# Altium footprint library 未分类器件.PcbLib: 33 footprints (part 1 of 3)
Each footprint in its own frame and in the unit in brackets; x right, y up, seen from the top. Pads: shape width x height; smd on the part's side, far side on the other; paste and mask are expansions set on the pad; w line width, h text height; cw(c..) or ccw(c..) is an arc to the next point about the centre after c.
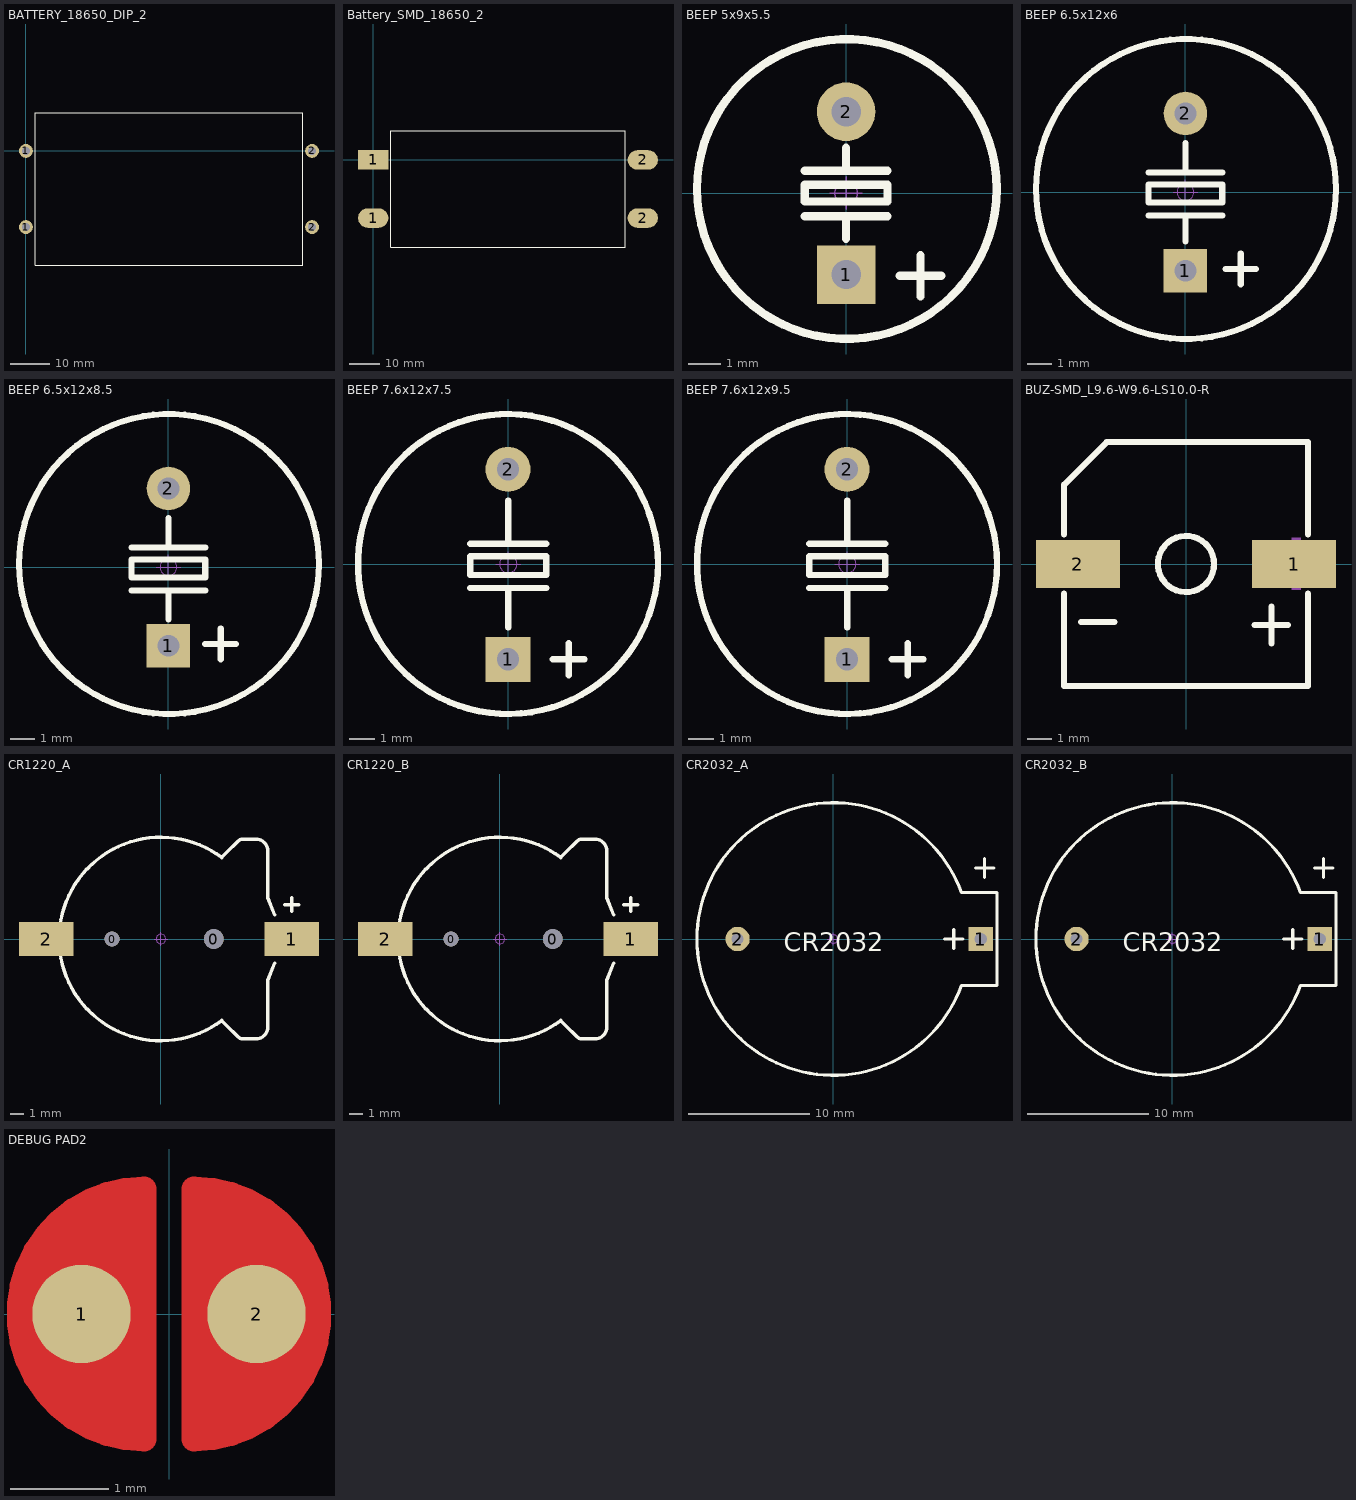
[diagram p0: the footprints below, top view; thin cyan lines are the x and y axes]

## BATTERY_18650_DIP_2 [mm]
height 20
pads (4):
  round 3.5 hole 2: 1(0,-19.3) 1(0,0) 2(72.5,-19.3) 2(72.5,0)
Top Overlay:
  lines w0.2: 2.335,-28.95 2.335,9.65 31.425,9.65 70.165,9.65 70.165,-28.95 2.335,-28.95
3D body "User Library-18650 Full.STEP": height 21.65, standoff -3.83, extent -2.644,-29.677 75.006,10.423

## Battery_SMD_18650_2 [mm]
height 20
pads (4):
  oval 10x6.4 smd: 1(0,-19.1) 2(88.7,-19.1) 2(88.7,0)
  rect 10x6.4 smd: 1(0,0)
Top Overlay:
  lines w0.2: 39.472,9.55 82.865,9.55 82.865,-28.65 5.835,-28.65 5.835,9.55 39.575,9.55
3D body "User Library-Blossom 1048.STEP": height 14.97, standoff -1.44, extent 1.372,-29.388 87.376,10.389

## BEEP 5x9x5.5 [mm] "5*9*5.5mm(脚距,直径,高度)"
pads (2):
  rect 1.8x1.8 hole 0.9: 1(0,-2.5)
  round 1.8 hole 0.9: 2(0,2.5)
Top Overlay:
  circle w0.254: c0.023,0.127 r4.6
  lines w0.254: -1.27,-0.709 1.27,-0.709 ; -1.27,0.685 1.27,0.685 ; 0,-1.397 0,-0.709 ; 0,0.812 0,1.397 ; 1.651,-2.54 2.921,-2.54 ; 2.286,-3.175 2.286,-1.905 ; -1.27,-0.254 -1.27,0.254 1.27,0.254 1.27,-0.254 -1.27,-0.254
Bottom Overlay:
  circle w0.254: c0.032,0.127 r4.6
  lines w0.254: 1.651,-2.54 2.921,-2.54 ; 2.286,-3.175 2.286,-1.905
Mechanical 15:
  circle w0.05: c0,0 r0.35
  lines w0.05: -0.5,0 0.5,0 ; 0,-0.5 0,0.5
3D body "BEEP 5x9x5.5.STEP": height 5.45, standoff -3.55, extent -4.5,-4.5 4.5,4.5

## BEEP 6.5x12x6 [mm] "6.5*12*6mm(脚距,直径,高度)"
pads (2):
  rect 1.8x1.8 hole 0.9: 1(0,-3.25)
  round 1.8 hole 0.9: 2(0,3.25)
Top Overlay:
  circle w0.254: c0.023,0.127 r6.2
  lines w0.254: -1.524,-0.963 1.524,-0.963 ; -1.524,0.812 1.524,0.812 ; 0,-2.032 0,-0.963 ; 0,0.812 0,2.032 ; 1.651,-3.175 2.921,-3.175 ; 2.286,-3.81 2.286,-2.54 ; -1.524,-0.438 -1.524,0.312 1.524,0.312 1.524,-0.438 -1.524,-0.438
Bottom Overlay:
  circle w0.254: c0.032,0.127 r6.165
  lines w0.254: 1.651,-3.175 2.921,-3.175 ; 2.286,-3.81 2.286,-2.54
Mechanical 15:
  circle w0.05: c0,0 r0.35
  lines w0.05: -0.5,0 0.5,0 ; 0,-0.5 0,0.5
3D body "BEEP 6.5x12x6.STEP": height 6.05, standoff -3.25, extent -6,-6 6,6

## BEEP 6.5x12x8.5 [mm] "6.5*12*8.5mm(脚距,直径,高度)"
pads (2):
  rect 1.8x1.8 hole 0.9: 1(0,-3.25)
  round 1.8 hole 0.9: 2(0,3.25)
Top Overlay:
  circle w0.254: c0.023,0.127 r6.2
  lines w0.254: -1.524,-0.963 1.524,-0.963 ; -1.524,0.812 1.524,0.812 ; 0,-2.159 0,-0.963 ; 0,0.812 0,2.032 ; 1.524,-3.175 2.794,-3.175 ; 2.159,-3.81 2.159,-2.54 ; -1.524,-0.438 -1.524,0.312 1.524,0.312 1.524,-0.438 -1.524,-0.438
Bottom Overlay:
  circle w0.254: c0.032,0.127 r6.165
  lines w0.254: 1.524,-3.175 2.794,-3.175 ; 2.159,-3.81 2.159,-2.54
Mechanical 15:
  circle w0.05: c0,0 r0.35
  lines w0.05: -0.5,0 0.5,0 ; 0,-0.5 0,0.5
3D body "BEEP 6.5x12x8.5.STEP": height 8.55, standoff -3.25, extent -6,-6 6,6

## BEEP 7.6x12x7.5 [mm] "6.5*12*7.5mm(脚距,直径,高度)"
height 9.398
pads (2):
  rect 1.8x1.8 hole 0.9: 1(-0.011,-3.811)
  round 1.8 hole 0.9: 2(-0.011,3.789)
Top Overlay:
  circle w0.254: c-0.011,0 r6.001
  lines w0.254: -1.524,-0.963 1.524,-0.963 ; -1.524,0.812 1.524,0.812 ; 0,-2.54 0,-0.963 ; 0,0.812 0,2.54 ; 1.778,-3.81 3.048,-3.81 ; 2.413,-4.445 2.413,-3.175 ; -1.524,-0.438 1.524,-0.438 1.524,0.312 -1.524,0.312 -1.524,-0.438
Bottom Overlay:
  circle w0.254: c-0.011,0 r6.001
  lines w0.254: 1.778,-3.81 3.048,-3.81 ; 2.413,-4.445 2.413,-3.175
Mechanical 15:
  circle w0.05: c0,0 r0.35
  lines w0.05: -0.5,0 0.5,0 ; 0,-0.5 0,0.5
3D body "BEEP 7.6x12x7.5.STEP": height 7.55, standoff -3.25, extent -6.011,-5.928 5.989,6.072

## BEEP 7.6x12x9.5 [mm] "6.5*12*9.5mm(脚距,直径,高度)"
height 9.398
pads (2):
  rect 1.8x1.8 hole 0.9: 1(-0.011,-3.811)
  round 1.8 hole 0.9: 2(-0.011,3.789)
Top Overlay:
  circle w0.254: c-0.011,0 r6.001
  lines w0.254: -1.524,-0.963 1.524,-0.963 ; -1.524,0.812 1.524,0.812 ; 0,-2.54 0,-0.963 ; 0,0.812 0,2.54 ; 1.778,-3.81 3.048,-3.81 ; 2.413,-4.445 2.413,-3.175 ; -1.524,-0.438 -1.524,0.312 1.524,0.312 1.524,-0.438 -1.524,-0.438
Bottom Overlay:
  circle w0.254: c-0.011,0 r6.001
  lines w0.254: 1.778,-3.81 3.048,-3.81 ; 2.413,-4.445 2.413,-3.175
Mechanical 15:
  circle w0.05: c0,0 r0.35
  lines w0.05: -0.5,0 0.5,0 ; 0,-0.5 0,0.5
3D body "BEEP 7.6x12x9.5.STEP": height 9.55, standoff -3.25, extent -6.011,-5.928 5.989,6.072

## BUZ-SMD_L9.6-W9.6-LS10.0-R [mm]
pads (2):
  rect 3.5x2 smd: 1(4.5,0) 2(-4.5,0)
Top Overlay:
  circle w0.254: c0.001,0 r1.171
  lines w0.254: -5.079,-1.232 -5.079,-5.08 5.081,-5.08 5.081,-1.231 ; -5.079,1.232 -5.079,3.302 -3.301,5.08 5.081,5.08 5.081,1.231 ; -4.381,-2.413 -2.984,-2.413 ; 2.858,-2.54 4.255,-2.54 ; 3.557,-3.302 3.557,-1.778
Mechanical 15:
  region: 3.493,0.191 5.652,0.191 5.652,-0.191 3.493,-0.191
  region: 4.41,-1.07 4.41,1.089 4.791,1.089 4.791,-1.07
  region: -5.508,0.191 -3.349,0.191 -3.349,-0.191 -5.508,-0.191

## CR1220_A [mm] "纽扣电池座"
pads (4):
  round 1.1 hole 1.1: 0(-3.6,0)
  round 1.45 hole 1.45: 0(3.9,0)
  rect 4x2.5 smd: 1(9.652,0) 2(-8.458,0)
Top Overlay:
  lines w0.254: 4.5,-6 cw(c0,0) 4.5,6 ; 4.572,-6.096 4.826,-6.35 5.662,-7.186 ccw(c6.096,-6.753) 6.096,-7.366 7.007,-7.366 ccw(c7.007,-6.499) 7.874,-6.499 7.874,-3.048 8.382,-1.778 ; 4.572,6.096 4.826,6.35 5.662,7.186 cw(c6.096,6.753) 6.096,7.366 7.007,7.366 cw(c7.007,6.499) 7.874,6.499 7.874,3.048 8.382,1.778 ; 9.144,2.54 10.16,2.54 ; 9.652,2.032 9.652,3.048
Mechanical 15:
  circle w0.05: c0,0 r0.35
  lines w0.05: -0.5,0 0.5,0 ; 0,-0.5 0,0.5
3D body "CR1220_A.STEP": height 4.05, standoff -0.85, extent -9.416,-7.45 10.34,7.45

## CR1220_B [mm] "纽扣电池座"
pads (4):
  round 1.1 hole 1.1: 0(-3.6,0)
  round 1.45 hole 1.45: 0(3.9,0)
  rect 4x2.5 smd: 1(9.652,0) 2(-8.458,0)
Top Overlay:
  lines w0.254: 4.5,-6 cw(c0,0) 4.5,6 ; 4.572,-6.096 4.826,-6.35 5.662,-7.186 ccw(c6.096,-6.753) 6.096,-7.366 7.007,-7.366 ccw(c7.007,-6.499) 7.874,-6.499 7.874,-3.048 8.382,-1.778 ; 4.572,6.096 4.826,6.35 5.662,7.186 cw(c6.096,6.753) 6.096,7.366 7.007,7.366 cw(c7.007,6.499) 7.874,6.499 7.874,3.048 8.382,1.778 ; 9.144,2.54 10.16,2.54 ; 9.652,2.032 9.652,3.048
Mechanical 15:
  circle w0.05: c0,0 r0.35
  lines w0.05: -0.5,0 0.5,0 ; 0,-0.5 0,0.5
3D body "CR1220_B.STEP": height 4.05, standoff -0.85, extent -9.416,-7.45 10.34,7.45

## CR2032_A [mm] "纽扣电池座"
pads (2):
  rect 2x2 hole 1: 1(12.126,0)
  round 2 hole 1: 2(-7.874,0)
Top Overlay:
  lines w0.254: 9.144,0 10.668,0 ; 9.906,-0.762 9.906,0.762 ; 11.684,5.842 13.208,5.842 ; 12.446,5.08 12.446,6.604 ; 10.541,-3.81 cw(c0,0) 10.541,3.81 13.462,3.81 13.462,-3.81 10.541,-3.81
  text "CR2032" at -4.064,-1.016 h1.52
Mechanical 15:
  circle w0.05: c0,0 r0.35
  lines w0.05: -0.5,0 0.5,0 ; 0,-0.5 0,0.5
3D body "CR2032_A.STEP": height 8.75, standoff -3.05, extent -11.1,-11.099 13.3,11.099

## CR2032_B [mm] "纽扣电池座"
pads (2):
  rect 2x2 hole 1: 1(12.126,0)
  round 2 hole 1: 2(-7.874,0)
Top Overlay:
  lines w0.254: 9.144,0 10.668,0 ; 9.906,-0.762 9.906,0.762 ; 11.684,5.842 13.208,5.842 ; 12.446,5.08 12.446,6.604 ; 10.541,-3.81 cw(c0,0) 10.541,3.81 13.462,3.81 13.462,-3.81 10.541,-3.81
  text "CR2032" at -4.064,-1.016 h1.52
Mechanical 15:
  circle w0.05: c0,0 r0.35
  lines w0.05: -0.5,0 0.5,0 ; 0,-0.5 0,0.5
3D body "CR2032_B.STEP": height 8.75, standoff -3.05, extent -11.1,-11.099 13.3,11.099

## DEBUG PAD2 [mm] "调试断点焊盘"
pads (2):
  round 1 smd: 1(-0.889,0) 2(0.889,0)
Top Layer:
  region: 0.254,1.27 0.254,-1.27 0.762,-1.143 1.397,-0.508 1.524,0.254 1.27,0.762 1.016,1.016 0.508,1.27
  region: -0.254,1.27 -0.254,-1.27 -0.762,-1.143 -1.397,-0.508 -1.524,0.254 -1.27,0.762 -1.016,1.016 -0.508,1.27
  lines w0.254: -0.254,-1.27 cw(c-0.254,0) -0.254,1.27 -0.254,-1.27 ; 0.254,-1.27 ccw(c0.254,0) 0.254,1.27 0.254,-1.27
Top Solder:
  region: -0.254,1.27 -0.254,-1.27 -0.762,-1.143 -1.397,-0.508 -1.524,0.254 -1.27,0.762 -1.016,1.016 -0.508,1.27
  region: 0.254,1.27 0.254,-1.27 0.762,-1.143 1.397,-0.508 1.524,0.254 1.27,0.762 1.016,1.016 0.508,1.27
  lines w0.254: -0.254,-1.27 cw(c-0.254,0) -0.254,1.27 -0.254,-1.27 ; 0.254,-1.27 ccw(c0.254,0) 0.254,1.27 0.254,-1.27

## HD-1 [mm]
3D body "User Library-Heat Sink 6400BG.STEP": height 65, standoff -3, extent -19.417,-13.172 22.583,12.228

## HD-2 [mm]
3D body "User Library-heat sink-1.STEP": height 30.62, standoff 0, extent -12.521,-9.68 10.379,6.72

## HD-3 [mm]
3D body "User Library-Heatsink-52AS.STEP": height 25, standoff 0, extent -13.737,-7.252 13.263,5.748